# EAGLE library part ADM7154ACPZ (library EagleLibrary)
Low noise LDO
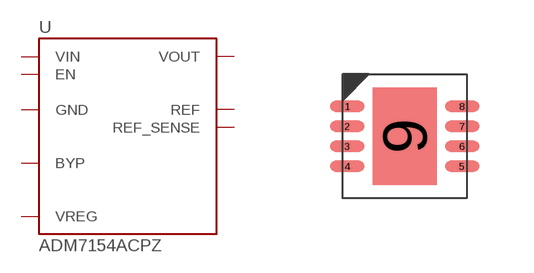
[diagram p2: symbol with the pads of ADM7154ACPZ; footprint ADM7154ACPZ]

Designator prefix U

## ADM7154ACPZ (MFG: Analog Devices; PN: ADM7154ACPZ)  [ADM7154ACPZ]
1  VREG
2  VOUT
3  BYP
4  GND
5  REF_SENSE
6  REF
7  EN
8  VIN
9  GND

## Footprint ADM7154ACPZ (pad centres in mm)
8-SON (DFN), 0.50 mm pitch, 3.00 X 3.00 X 0.80 mm body, 2.44 X 1.60 mm thermal pad 8-pin SON (DFN) package with 0.50 mm pitch with body size 3.00 X 3.00 X 0.80 mm and thermal pad size 2.44 X 1.60 mm
smd 0.86 x 0.27: 1 -1.435,0.75; 2 -1.435,0.25; 3 -1.435,-0.25; 4 -1.435,-0.75; 5 1.435,-0.75; 6 1.435,-0.25; 7 1.435,0.25; 8 1.435,0.75
smd 1.6 x 2.44: 9 0,0